# EAGLE library part MN12832JC (library vfds)
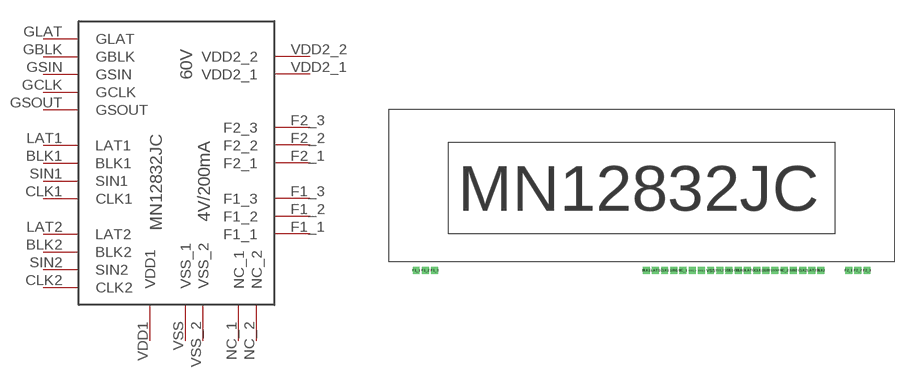
[diagram p0: symbol with the pads of MN12832JC; footprint MN12832JC]

Designator prefix -

## MN12832JC  [MN12832JC]
BLK1  BLK1
BLK2  BLK2
CLK1  CLK1
CLK2  CLK2
F1_1  F1_1
F1_2  F1_2
F1_3  F1_3
F2_1  F2_1
F2_2  F2_2
F2_3  F2_3
GBLK  GBLK
GCLK  GCLK
GLAT  GLAT
GSIN  GSIN
GSOUT  GSOUT
LAT1  LAT1
LAT2  LAT2
NC_1  NC_1
NC_2  NC_2
SIN1  SIN1
SIN2  SIN2
VDD1  VDD1
VDD2_1  VDD2_1
VDD2_2  VDD2_2
VSS  VSS_1
VSS_2  VSS_2

## Footprint MN12832JC (pad centres in mm)
drill 1 square: BLK1 1.39,-17.24; BLK2 39.39,-17.24; CLK1 5.39,-17.24; CLK2 35.39,-17.24; F1_1 -48.61,-17.24; F1_2 -46.61,-17.24; F1_3 -44.61,-17.24; F2_1 45.39,-17.24; F2_2 47.39,-17.24; F2_3 49.39,-17.24; GBLK 21.39,-17.24; GCLK 25.39,-17.24; GLAT 23.39,-17.24; GSIN 27.39,-17.24; GSOUT 29.39,-17.24; LAT1 3.39,-17.24; LAT2 37.39,-17.24; NC_1 9.39,-17.24; NC_2 31.39,-17.24; SIN1 7.39,-17.24; SIN2 33.39,-17.24; VDD1 19.39,-17.24; VDD2_1 11.39,-17.24; VDD2_2 13.39,-17.24; VSS 15.39,-17.24; VSS_2 17.39,-17.24